# EAGLE library part MCP23017 (library ruark2)
I/O Expander 16 CH, I²C 1.7MHz 28-SSOP
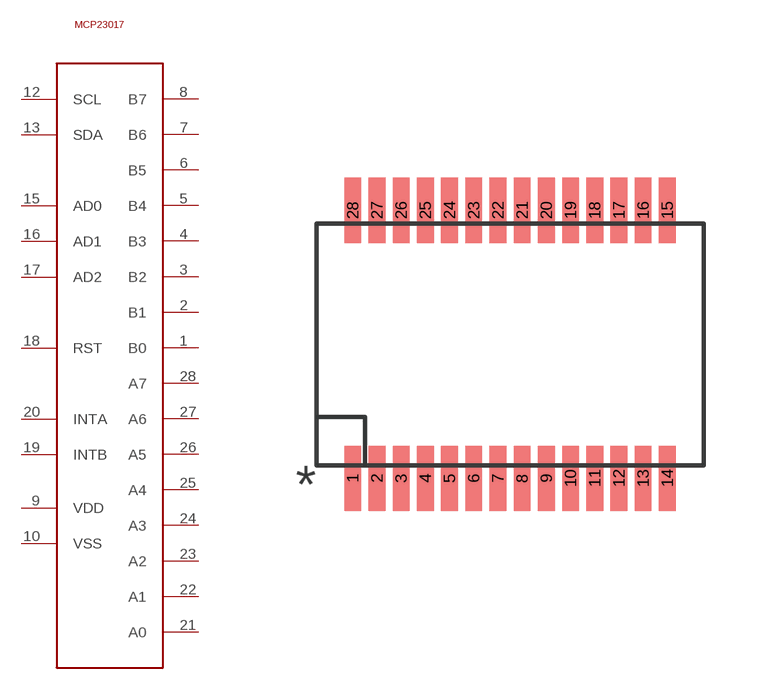
[diagram p20: symbol with the pads of SSOP28; footprint SSOP28]

Designator prefix U

## MCP23017 (PARTNO: MCP23017T-E/SSCT-ND)  [SSOP28]
1  B0
2  B1
3  B2
4  B3
5  B4
6  B5
7  B6
8  B7
9  VDD
10  VSS
12  SCL
13  SDA
15  AD0
16  AD1
17  AD2
18  RST
19  INTB
20  INTA
21  A0
22  A1
23  A2
24  A3
25  A4
26  A5
27  A6
28  A7

## Footprint SSOP28 (pad centres in mm)
smd 0.45 x 1.75: 1 -4.225,-3.6; 2 -3.575,-3.6; 3 -2.925,-3.6; 4 -2.275,-3.6; 5 -1.625,-3.6; 6 -0.975,-3.6; 7 -0.325,-3.6; 8 0.325,-3.6; 9 0.975,-3.6; 10 1.625,-3.6; 11 2.275,-3.6; 12 2.925,-3.6; 13 3.575,-3.6; 14 4.225,-3.6; 15 4.225,3.6; 16 3.575,3.6; 17 2.925,3.6; 18 2.275,3.6; 19 1.625,3.6; 20 0.975,3.6; 21 0.325,3.6; 22 -0.325,3.6; 23 -0.975,3.6; 24 -1.625,3.6; 25 -2.275,3.6; 26 -2.925,3.6; 27 -3.575,3.6; 28 -4.225,3.6